# EAGLE library part TL5001CD (library _mtvl.power)
TI-5001D8
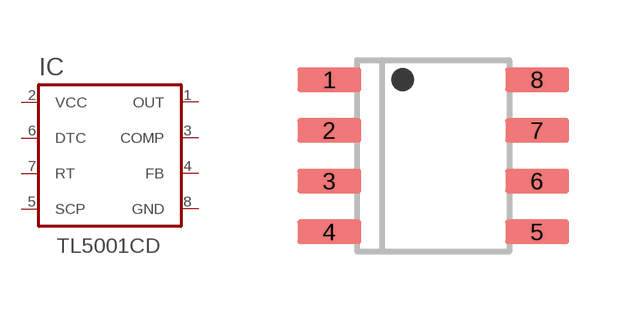
[diagram p4: symbol with the pads of SOIC8; footprint SOIC8]

Designator prefix IC

## TL5001CD  [SOIC8]
1  OUT  oc
2  VCC  sup
3  COMP  out
4  FB  in
5  SCP  in
6  DTC  in
7  RT  pas
8  GND  sup

## Footprint SOIC8 (pad centres in mm)
Small Outline IC
smd 1.6 x 0.61: 1 -2.6,1.905; 2 -2.6,0.635; 3 -2.6,-0.635; 4 -2.6,-1.905; 5 2.6,-1.905; 6 2.6,-0.635; 7 2.6,0.635; 8 2.6,1.905